# Altium integrated library ti.IntLib: 3 symbols
Pins are listed as number, name and electrical type; pins without a type are passive.

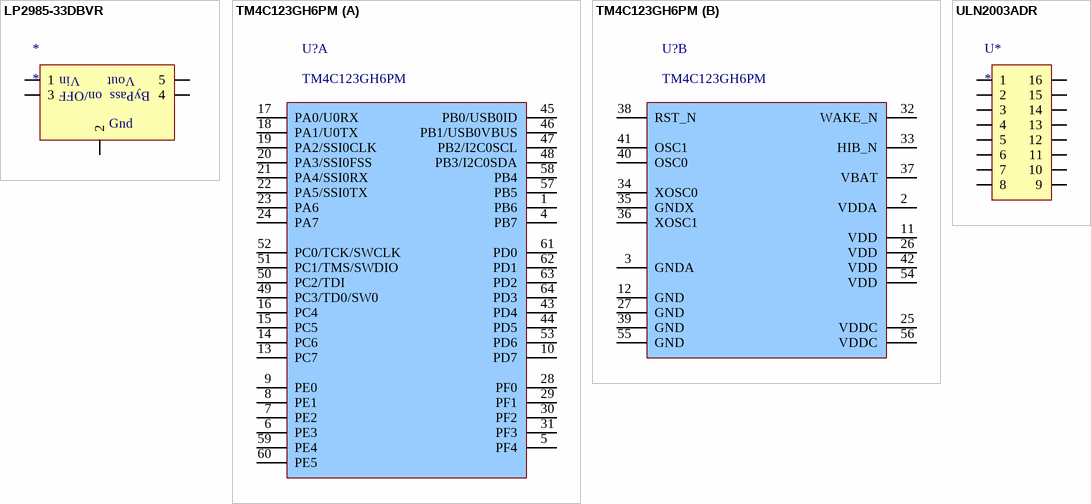
[diagram p0: symbols LP2985-33DBVR to ULN2003ADR]

## LP2985-33DBVR
designator *
footprint LP2985-33DBVR (Linear Regulator 3.3V)
pins: 1, 2, 3, 4, 5
text: Vin; Vout; on/OFF; ByPass; Gnd

## TM4C123GH6PM
designator U?
Tiva TM4C123GH6PM Microcontroller
footprint QFP50P1200X1200X160-64N
part A pins: 1 PB6, 4 PB7, 5 PF4, 6 PE3, 7 PE2, 8 PE1, 9 PE0, 10 PD7, 13 PC7, 14 PC6, 15 PC5 (power), 16 PC4, 17 PA0/U0RX, 18 PA1/U0TX, 19 PA2/SSI0CLK, 20 PA3/SSI0FSS, 21 PA4/SSI0RX, 22 PA5/SSI0TX, 23 PA6, 24 PA7, 28 PF0, 29 PF1, 30 PF2, 31 PF3, 43 PD4, 44 PD5, 45 PB0/USB0ID, 46 PB1/USB0VBUS, 47 PB2/I2C0SCL, 48 PB3/I2C0SDA, 49 PC3/TD0/SW0, 50 PC2/TDI, 51 PC1/TMS/SWDIO, 52 PC0/TCK/SWCLK, 53 PD6, 57 PB5, 58 PB4, 59 PE4, 60 PE5, 61 PD0, 62 PD1, 63 PD2, 64 PD3
part B pins: 2 VDDA, 3 GNDA, 11 VDD, 12 GND, 25 VDDC, 26 VDD, 27 GND, 32 WAKE_N, 33 HIB_N, 34 XOSC0, 35 GNDX, 36 XOSC1, 37 VBAT, 38 RST_N, 39 GND, 40 OSC0, 41 OSC1, 42 VDD, 54 VDD, 55 GND, 56 VDDC

## ULN2003ADR
designator U*
footprint ULN2003ADR (Plastic Small Outline, 16 Pin)
pins: 1, 2, 3, 4, 5, 6, 7, 8, 9, 10, 11, 12, 13, 14, 15, 16